# Altium footprint library PCB1.PcbLib: 53 footprints (part 4 of 4)
Each footprint in its own frame and in the unit in brackets; x right, y up, seen from the top. Pads: shape width x height; smd on the part's side, far side on the other; paste and mask are expansions set on the pad; w line width, h text height; cw(c..) or ccw(c..) is an arc to the next point about the centre after c.
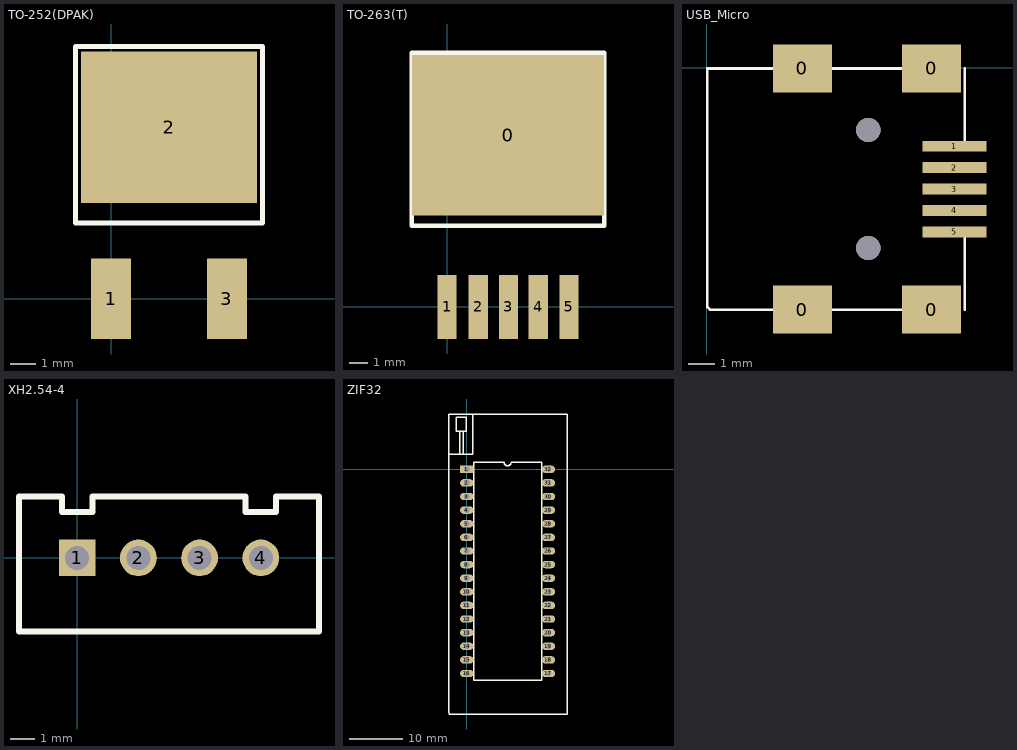
[diagram p3: the footprints below, top view; thin cyan lines are the x and y axes]

## TO-252(DPAK) [mm] "D2-PAK/TO-263-AB; 3 Leads (1 Cropped); Body 15.5 (inc. leads) x 10.5 mm (LxW max)"
height 4.69
pads (3):
  rect 1.6x3.2 smd: 1(0,0) 3(4.6,0)
  rect 7x6 smd: 2(2.3,6.8)
Top Overlay:
  lines w0.2: -1.4,3 6,3 6,10 -1.4,10 -1.4,3

## TO-263(T) [mil]
pads (6):
  rect 420x350 smd: 0(133,375)
  rect 42x140 smd: 1(0,0) 2(68,0) 3(134,0) 4(199,0) 5(266,0)
Top Overlay:
  lines w10: -77,176.97 343,176.97 343,555 -77,555 -77,176.97

## USB_Micro [mm]
pads (9):
  rect 2.2x1.8 smd: 0(3.556,-9.017) 0(3.556,-0.025) 0(8.382,-9.017) 0(8.382,-0.025)
  rect 2.4x0.4 smd: 1(9.234,-2.923) 2(9.234,-3.723) 3(9.234,-4.523) 4(9.234,-5.323) 5(9.234,-6.123)
via 6.015,-2.323 diameter 0.9 hole 0.9
via 6.015,-6.723 diameter 0.9 hole 0.9
Top Overlay:
  lines w0.1: 2.515,-0.023 0.015,-0.023 0.015,-8.923 0.115,-9.023 2.615,-9.023 ; 4.215,-9.023 8.015,-9.023 ; 4.215,-0.023 8.015,-0.023 ; 9.615,-9.023 9.615,-6.323 ; 9.615,-2.723 9.615,-0.023

## XH2.54-4 [mil]
pads (4):
  rect 60x60 hole 39.37: 1(0,0)
  round 60 hole 39.37: 2(100,0) 3(200,0) 4(300,0)
Top Overlay:
  lines w10: -95,-120 395,-120 395,100 325,100 325,75 275,75 275,100 25,100 25,75 -25,75 -25,100 -95,100 -95,-120

## ZIF32 [mm]
pads (32):
  rect 2.5x1.38 hole 1: 1(0,0)
  oval 2.5x1.38 hole 1: 2(0,-2.54) 3(0,-5.08) 4(0,-7.62) 5(0,-10.16) 6(0,-12.7) 7(0,-15.24) 8(0,-17.78) 9(0,-20.32) 10(0,-22.86) 11(0,-25.4) 12(0,-27.94) 13(0,-30.48) 14(0,-33.02) 15(0,-35.56) 16(0,-38.1) 17(15.24,-38.1) 18(15.24,-35.56) 19(15.24,-33.02) 20(15.24,-30.48) 21(15.24,-27.94) 22(15.24,-25.4) 23(15.24,-22.86) 24(15.24,-20.32) 25(15.24,-17.78) 26(15.24,-15.24) 27(15.24,-12.7) 28(15.24,-10.16) 29(15.24,-7.62) 30(15.24,-5.08) 31(15.24,-2.54) 32(15.24,0)
Top Overlay:
  lines w0.254: -3.322,2.794 1.034,2.794 1.088,2.848 1.088,10.318 ; -3.07,10.318 18.71,10.318 18.71,-2.354 18.71,-7.97 18.71,-45.662 -3.304,-45.662 -3.322,-45.23 -3.322,-9.734 -3.322,-2.444 -3.322,9.922 -3.322,10.318 -2.242,10.318 ; -1.324,2.794 -1.324,7.078 ; -0.694,2.794 -0.694,7.078 ; -1.99,7.078 -0.118,7.078 -0.118,9.706 -1.99,9.706 -1.99,7.078 ; 1.27,-39.37 1.27,1.27 6.985,1.27 ccw(c7.62,1.27) 8.255,1.27 13.97,1.27 13.97,-39.37 1.27,-39.37